# Altium schematic symbol library Schlib1.SchLib: 13 symbols
Pins are listed as number, name and electrical type; pins without a type are passive.

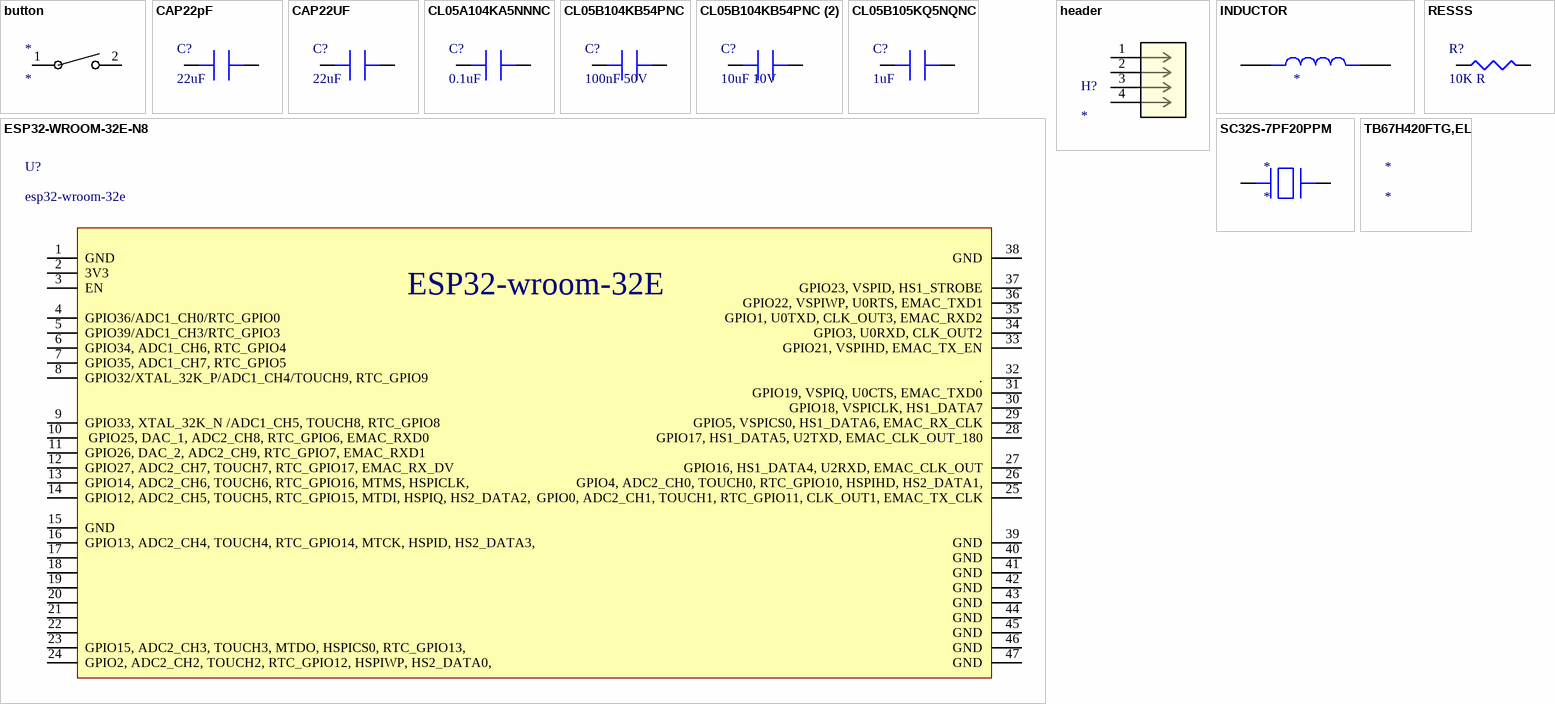
[diagram p0: symbols button to TB67H420FTG,EL]

## button
designator *
footprint SW_MDPSLFS_CNK
pins: 1, 2

## CAP22pF
designator C?, comment 22uF
footprint PCBComponent_1
pins: 1, 2

## CAP22UF
designator C?, comment 22uF
footprint PCBComponent_1
pins: 1, 2

## CL05A104KA5NNNC
designator C?, comment 0.1uF
25V 100nF X5R ±10% 0402 Multilayer Ceramic Capacitors MLCC - SMD/SMT ROHS; Manufacturer: Samsung Electro-Mechanics; Manufacturer Part Number: CL05A104KA5NNNC; Supplier: Avnet; Supplier Part Number: CL05A104KA5NNNC; RoHS: Compliant; Category: Ceramic Capacitors; Stock: 6250000; Pricing: 10000=0.00127, 20000=0.00127, 40000=0.00126, 60000=0.00126, 80000=0.00125 (USD); Value: 100nF; Case/Package: 0402; Case Code (Imperial): 0402; Case Code (Metric): 1005; China RoHS: Compliant; Depth: 500µm; Dielectric: X5R; Dielectric Material: Ceramic; Height: 500µm; Lead Free: Lead Free; Length: 1mm; Lifecycle Status: Production; Material: Ceramic; Max Operating Temperature: 85°C; Min Operating Temperature: -55°C; Mounting Technology: Surface Mount; Number of Terminals: 2; Radiation Hardening: No; REACH SVHC: Yes; Schedule B: 8532240020, 8532240020|8532240020|8532240020|8532240020|8532240020|8532240020|8532240020|8532240020|8532240020|8532240020|8532240020|8532240020|8532240020|8532240020|8532240020|8532240020|8532240020|8532240020|8532240020|8532240020|8532240020|8532240020|8532240020|85; Thickness: 558.8µm; Tolerance: 10%; Voltage: 25V; Voltage Rating: 25V; Voltage Rating (DC): 25V; Width: 500µm; ComponentLink1URL: https://datasheet.octopart.com:443/CL05A104KA5NNNC-Samsung-Electro-Mechanics-datasheet-181960513.pdf?src-supplier=Newark; ComponentLink1Description: https://datasheet.octopart.com:443/CL05A104KA5NNNC-Samsung-Electro-Mechanics-datasheet-181960513.pdf?src-supplier=Newark; ComponentLink2URL: https://datasheet.octopart.com:443/CL05A104KA5NNNC-Samsung-Electro-Mechanics-datasheet-136031715.pdf?src-supplier=Samsung+SCT; ComponentLink2Description: https://datasheet.octopart.com:443/CL05A104KA5NNNC-Samsung-Electro-Mechanics-datasheet-136031715.pdf?src-supplier=Samsung+SCT; ComponentLink3URL: https://datasheet.octopart.com:443/CL05A104KA5NNNC-Samsung-Electro-Mechanics-datasheet-110226196.pdf?src-supplier=Future+Electronics; ComponentLink3Description: https://datasheet.octopart.com:443/CL05A104KA5NNNC-Samsung-Electro-Mechanics-datasheet-110226196.pdf?src-supplier=Future+Electronics; ComponentLink4URL: https://datasheet.octopart.com:443/CL05A104KA5NNNC-Samsung-Electro-Mechanics-datasheet-81461585.pdf?src-supplier=Future+Electronics; ComponentLink4Description: https://datasheet.octopart.com:443/CL05A104KA5NNNC-Samsung-Electro-Mechanics-datasheet-81461585.pdf?src-supplier=Future+Electronics; ComponentLink5URL: https://datasheet.octopart.com:443/CL05A104KA5NNNC-Samsung-datasheet-42485115.pdf?src-supplier=Future+Electronics; ComponentLink5Description: https://datasheet.octopart.com:443/CL05A104KA5NNNC-Samsung-datasheet-42485115.pdf?src-supplier=Future+Electronics; ComponentLink6URL: https://datasheet.octopart.com:443/CL05A104KA5NNNC-Samsung-datasheet-26588998.pdf?src-supplier=Future+Electronics; ComponentLink6Description: https://datasheet.octopart.com:443/CL05A104KA5NNNC-Samsung-datasheet-26588998.pdf?src-supplier=Future+Electronics; ComponentLink7URL: https://datasheet.octopart.com:443/CL05A104KA5NNNC-Samsung-datasheet-12539701.pdf?src-supplier=Future+Electronics; ComponentLink7Description: https://datasheet.octopart.com:443/CL05A104KA5NNNC-Samsung-datasheet-12539701.pdf?src-supplier=Future+Electronics; ComponentLink8URL: https://datasheet.octopart.com:443/CL05A104KA5NNNC-Samsung-Electro-Mechanics-datasheet-149136628.pdf?src-supplier=Future+Electronics; ComponentLink8Description: https://datasheet.octopart.com:443/CL05A104KA5NNNC-Samsung-Electro-Mechanics-datasheet-149136628.pdf?src-supplier=Future+Electronics; ComponentLink9URL: https://datasheet.octopart.com/CL05A104KA5NNNC-Samsung-Electro-Mechanics-datasheet-97040617.pdf; ComponentLink9Description: https://datasheet.octopart.com/CL05A104KA5NNNC-Samsung-Electro-Mechanics-datasheet-97040617.pdf; ComponentLink10URL: https://datasheet.octopart.com/CL05A104KA5NNNC-Samsung-Electro-Mechanics-datasheet-8324245.pdf; ComponentLink10Description: https://datasheet.octopart.com/CL05A104KA5NNNC-Samsung-Electro-Mechanics-datasheet-8324245.pdf; ComponentLink11URL: https://datasheet.octopart.com/General-Multilayer-Ceramic-Capacitors-Samsung-datasheet-family-111.pdf; ComponentLink11Description: https://datasheet.octopart.com/General-Multilayer-Ceramic-Capacitors-Samsung-datasheet-family-111.pdf; ComponentLink12URL: https://datasheet.octopart.com:443/CL05A104KA5NNNC-Samsung-Electro-Mechanics-datasheet-11550168.pdf?src-supplier=Arrow+Electronics; ComponentLink12Description: https://datasheet.octopart.com:443/CL05A104KA5NNNC-Samsung-Electro-Mechanics-datasheet-11550168.pdf?src-supplier=Arrow+Electronics; ComponentLink13URL: https://datasheet.octopart.com:443/CL05A104KA5NNNC-Samsung-datasheet-59220082.pdf?src-supplier=TME; ComponentLink13Description: https://datasheet.octopart.com:443/CL05A104KA5NNNC-Samsung-datasheet-59220082.pdf?src-supplier=TME; ComponentLink14URL: http://sigma.octopart.com:80/rohs_certificate/General-Multilayer-Ceramic-Capacitors-Samsung-family-110.pdf?src-supplier=Compliance+Statements; ComponentLink14Description: http://sigma.octopart.com:80/rohs_certificate/General-Multilayer-Ceramic-Capacitors-Samsung-family-110.pdf?src-supplier=Compliance+Statements; ComponentLink15URL: http://sigma.octopart.com:80/rohs_statement/General-Multilayer-Ceramic-Capacitors-Samsung-family-132.pdf?src-supplier=Compliance+Statements; ComponentLink15Description: http://sigma.octopart.com:80/rohs_statement/General-Multilayer-Ceramic-Capacitors-Samsung-family-132.pdf?src-supplier=Compliance+Statements; ComponentLink16URL: http://sigma.octopart.com:80/reach_statement/General-Multilayer-Ceramic-Capacitors-Samsung-family-133.pdf?src-supplier=Compliance+Statements; ComponentLink16Description: http://sigma.octopart.com:80/reach_statement/General-Multilayer-Ceramic-Capacitors-Samsung-family-133.pdf?src-supplier=Compliance+Statements; LCSC PART NUMBER: *
footprint PCBComponent_1
pins: 1, 2

## CL05B104KB54PNC
designator C?, comment 100nF 50V
50V 100nF X7R ±10% 0402 Multilayer Ceramic Capacitors MLCC - SMD/SMT ROHS; Manufacturer: Samsung Electro-Mechanics; Manufacturer Part Number: CL05B104KB54PNC; ESC PART NUMBER: C307331; Supplier: Avnet; Supplier Part Number: CL05B104KB54PNC; RoHS: Compliant; Category: Ceramic Capacitors; Stock: 50000; Pricing: 10000=0.00505, 20000=0.00502, 40000=0.005, 60000=0.00497, 80000=0.00494 (USD); Value: 100nF; Case/Package: 0402; China RoHS: Compliant; Dielectric Material: Ceramic; Height: 500µm; Length: 1mm; Lifecycle Status: Production; Material: Ceramic; Max Operating Temperature: 125°C; Min Operating Temperature: -55°C; Mounting Technology: Surface Mount; Number of Terminals: 2; REACH SVHC: Yes; Schedule B: 8532240020, 8532240020|8532240020|8532240020|8532240020|8532240020|8532240020|8532240020|8532240020|8532240020|8532240020|8532240020|8532240020|8532240020|8532240020|8532240020|8532240020|8532240020|8532240020|8532240020|8532240020|8532240020|8532240020|8532240020|85; Tolerance: 10%; Voltage Rating: 50V; Voltage Rating (DC): 50V; Width: 500µm; ComponentLink1URL: https://datasheet.octopart.com:443/CL05B104KB54PNC-Samsung-Electro-Mechanics-datasheet-182018727.pdf?src-supplier=IHS; ComponentLink1Description: https://datasheet.octopart.com:443/CL05B104KB54PNC-Samsung-Electro-Mechanics-datasheet-182018727.pdf?src-supplier=IHS; ComponentLink2URL: https://datasheet.octopart.com:443/CL05B104KB54PNC-Samsung-Electro-Mechanics-datasheet-138685816.pdf?src-supplier=Samsung+SCT; ComponentLink2Description: https://datasheet.octopart.com:443/CL05B104KB54PNC-Samsung-Electro-Mechanics-datasheet-138685816.pdf?src-supplier=Samsung+SCT; ComponentLink3URL: https://datasheet.octopart.com:443/CL05B104KB54PNC-Samsung-datasheet-8326407.pdf?src-supplier=TME; ComponentLink3Description: https://datasheet.octopart.com:443/CL05B104KB54PNC-Samsung-datasheet-8326407.pdf?src-supplier=TME
footprint PCBComponent_1
pins: 1, 2

## CL05B104KB54PNC (2)
designator C?, comment 10uF 10V
50V 100nF X7R ±10% 0402 Multilayer Ceramic Capacitors MLCC - SMD/SMT ROHS; Manufacturer: Samsung Electro-Mechanics; Manufacturer Part Number: CL05B104KB54PNC; ESC PART NUMBER: C307415; Supplier: Avnet; Supplier Part Number: CL05B104KB54PNC; RoHS: Compliant; Category: Ceramic Capacitors; Stock: 50000; Pricing: 10000=0.00505, 20000=0.00502, 40000=0.005, 60000=0.00497, 80000=0.00494 (USD); Value: 100nF; Case/Package: 0402; China RoHS: Compliant; Dielectric Material: Ceramic; Height: 500µm; Length: 1mm; Lifecycle Status: Production; Material: Ceramic; Max Operating Temperature: 125°C; Min Operating Temperature: -55°C; Mounting Technology: Surface Mount; Number of Terminals: 2; REACH SVHC: Yes; Schedule B: 8532240020, 8532240020|8532240020|8532240020|8532240020|8532240020|8532240020|8532240020|8532240020|8532240020|8532240020|8532240020|8532240020|8532240020|8532240020|8532240020|8532240020|8532240020|8532240020|8532240020|8532240020|8532240020|8532240020|8532240020|85; Tolerance: 10%; Voltage Rating: 50V; Voltage Rating (DC): 50V; Width: 500µm; ComponentLink1URL: https://datasheet.octopart.com:443/CL05B104KB54PNC-Samsung-Electro-Mechanics-datasheet-182018727.pdf?src-supplier=IHS; ComponentLink1Description: https://datasheet.octopart.com:443/CL05B104KB54PNC-Samsung-Electro-Mechanics-datasheet-182018727.pdf?src-supplier=IHS; ComponentLink2URL: https://datasheet.octopart.com:443/CL05B104KB54PNC-Samsung-Electro-Mechanics-datasheet-138685816.pdf?src-supplier=Samsung+SCT; ComponentLink2Description: https://datasheet.octopart.com:443/CL05B104KB54PNC-Samsung-Electro-Mechanics-datasheet-138685816.pdf?src-supplier=Samsung+SCT; ComponentLink3URL: https://datasheet.octopart.com:443/CL05B104KB54PNC-Samsung-datasheet-8326407.pdf?src-supplier=TME; ComponentLink3Description: https://datasheet.octopart.com:443/CL05B104KB54PNC-Samsung-datasheet-8326407.pdf?src-supplier=TME
footprint PCBComponent_1
pins: 1, 2

## CL05B105KQ5NQNC
designator C?, comment 1uF
Ceramic Capacitor, Multilayer, Ceramic, 6.3V, 10% +Tol, 10% -Tol, X7R, +-15% TC, 1uF, Surface Mount, 0402 inch; Manufacturer: Samsung Electro-Mechanics; Manufacturer Part Number: CL05B105KQ5NQNC; Value: 1µF; Supplier: Avnet; Supplier Part Number: CL05B105KQ5NQNC; RoHS: Compliant; Category: Ceramic Capacitors; Stock: 150000; Pricing: 10000=0.01188, 20000=0.01168, 40000=0.01148, 60000=0.01129, 80000=0.01109 (USD); Case/Package: 0402; Case Code (Imperial): 0402; Case Code (Metric): 1005; China RoHS: Compliant; Contact Plating: Tin; Depth: 500µm; Dielectric: X7R; Dielectric Material: Ceramic; Height: 600µm; Lead Free: Lead Free; Length: 1mm; Lifecycle Status: NRND; Material: Ceramic; Max Operating Temperature: 125°C; Min Operating Temperature: -55°C; Mounting Technology: Surface Mount; Number of Terminals: 2; Packaging: Tape & Reel (TR); REACH SVHC: Yes; Schedule B: 8532240020, 8532240020|8532240020, 8532240020|8532240020|8532240020, 8532240020|8532240020|8532240020|8532240020; Termination: Wraparound; Thickness: 558.8µm; Tolerance: 10%; Voltage Rating: 6.3V; Voltage Rating (DC): 6.3V; Width: 500µm; ComponentLink1URL: https://datasheet.octopart.com:443/CL05B105KQ5NQNC-Samsung-Electro-Mechanics-datasheet-37081328.pdf?src-supplier=Newark; ComponentLink1Description: https://datasheet.octopart.com:443/CL05B105KQ5NQNC-Samsung-Electro-Mechanics-datasheet-37081328.pdf?src-supplier=Newark; ComponentLink2URL: https://datasheet.octopart.com:443/CL05B105KQ5NQNC-Samsung-Electro-Mechanics-datasheet-34153838.pdf?src-supplier=Future+Electronics; ComponentLink2Description: https://datasheet.octopart.com:443/CL05B105KQ5NQNC-Samsung-Electro-Mechanics-datasheet-34153838.pdf?src-supplier=Future+Electronics; ComponentLink3URL: https://datasheet.octopart.com:443/CL05B105KQ5NQNC-Samsung-datasheet-27156743.pdf?src-supplier=Future+Electronics; ComponentLink3Description: https://datasheet.octopart.com:443/CL05B105KQ5NQNC-Samsung-datasheet-27156743.pdf?src-supplier=Future+Electronics; ComponentLink4URL: https://datasheet.octopart.com:443/CL05B105KQ5NQNC-Samsung-datasheet-8326407.pdf?src-supplier=TME; ComponentLink4Description: https://datasheet.octopart.com:443/CL05B105KQ5NQNC-Samsung-datasheet-8326407.pdf?src-supplier=TME; LCSC PART NUMBER: C307427
footprint PCBComponent_1
pins: 1, 2

## ESP32-WROOM-32E-N8
designator U?, comment esp32-wroom-32e
SMD module, ESP32-D0WD-V3, ESP32 ECO V3, 8 MB SPI flash, PCB antenna; Manufacturer: Espressif Systems; Manufacturer Part Number: ESP32-WROOM-32E-N8; Max Supply Voltage: 3.6V; Min Supply Voltage: 3V; Operating Supply Voltage: 3.3V; Supplier: DigiKey; Supplier Part Number: 5407-ESP32-WROOM-32E-N8CT-ND; RoHS: Compliant; Category: System on Chip (SoC); Stock: 5737; Pricing: 1=5.28, 10=4.566, 25=4.3196, 100=3.9802, 250=3.7768 (USD); Height - Seated (Max): 3.25mm; Length: 25.5mm; Max Operating Temperature: 85°C; Min Operating Temperature: -40°C; Number of Terminals: 38; REACH SVHC: Yes; Terminal Pitch: 1.27mm; Width: 18mm; ComponentLink1URL: https://datasheet.octopart.com:443/ESP32-WROOM-32E-N8-Espressif-Systems-datasheet-182247776.pdf?src-supplier=IHS; ComponentLink1Description: https://datasheet.octopart.com:443/ESP32-WROOM-32E-N8-Espressif-Systems-datasheet-182247776.pdf?src-supplier=IHS; ComponentLink2URL: https://datasheet.octopart.com:443/ESP32-WROOM-32E-N8-Espressif-Systems-datasheet-188867343.pdf?src-supplier=TME; ComponentLink2Description: https://datasheet.octopart.com:443/ESP32-WROOM-32E-N8-Espressif-Systems-datasheet-188867343.pdf?src-supplier=TME; ComponentLink3URL: https://datasheet.octopart.com:443/ESP32-WROOM-32E-N8-Espressif-Systems-datasheet-165560559.pdf?src-supplier=TME; ComponentLink3Description: https://datasheet.octopart.com:443/ESP32-WROOM-32E-N8-Espressif-Systems-datasheet-165560559.pdf?src-supplier=TME; ComponentLink4URL: https://datasheet.octopart.com:443/ESP32-WROOM-32E-N8-Espressif-Systems-datasheet-176782711.pdf?src-supplier=SOS+electronic; ComponentLink4Description: https://datasheet.octopart.com:443/ESP32-WROOM-32E-N8-Espressif-Systems-datasheet-176782711.pdf?src-supplier=SOS+electronic; LCSC PART NUMBER: C701342
footprint ESP32­WROOM­32E_EXP
pins: 1 GND, 2 3V3, 3 EN, 4 GPIO36/ADC1_CH0/RTC_GPIO0, 5 GPIO39/ADC1_CH3/RTC_GPIO3, 6 GPIO34, ADC1_CH6, RTC_GPIO4, 7 GPIO35, ADC1_CH7, RTC_GPIO5, 8 GPIO32/XTAL_32K_P/ADC1_CH4/TOUCH9, RTC_GPIO9, 9 GPIO33, XTAL_32K_N /ADC1_CH5, TOUCH8, RTC_GPIO8, 10  GPIO25, DAC_1, ADC2_CH8, RTC_GPIO6, EMAC_RXD0, 11 GPIO26, DAC_2, ADC2_CH9, RTC_GPIO7, EMAC_RXD1, 12 GPIO27, ADC2_CH7, TOUCH7, RTC_GPIO17, EMAC_RX_DV, 13 GPIO14, ADC2_CH6, TOUCH6, RTC_GPIO16, MTMS, HSPICLK,, 14 GPIO12, ADC2_CH5, TOUCH5, RTC_GPIO15, MTDI, HSPIQ, HS2_DATA2,, 15 GND, 16 GPIO13, ADC2_CH4, TOUCH4, RTC_GPIO14, MTCK, HSPID, HS2_DATA3,, 17, 18, 19, 20, 21, 22, 23 GPIO15, ADC2_CH3, TOUCH3, MTDO, HSPICS0, RTC_GPIO13,, 24 GPIO2, ADC2_CH2, TOUCH2, RTC_GPIO12, HSPIWP, HS2_DATA0,, 25 GPIO0, ADC2_CH1, TOUCH1, RTC_GPIO11, CLK_OUT1, EMAC_TX_CLK, 26 GPIO4, ADC2_CH0, TOUCH0, RTC_GPIO10, HSPIHD, HS2_DATA1,, 27 GPIO16, HS1_DATA4, U2RXD, EMAC_CLK_OUT, 28 GPIO17, HS1_DATA5, U2TXD, EMAC_CLK_OUT_180, 29 GPIO5, VSPICS0, HS1_DATA6, EMAC_RX_CLK, 30 GPIO18, VSPICLK, HS1_DATA7, 31 GPIO19, VSPIQ, U0CTS, EMAC_TXD0, 32 ., 33 GPIO21, VSPIHD, EMAC_TX_EN, 34 GPIO3, U0RXD, CLK_OUT2, 35 GPIO1, U0TXD, CLK_OUT3, EMAC_RXD2, 36 GPIO22, VSPIWP, U0RTS, EMAC_TXD1, 37 GPIO23, VSPID, HS1_STROBE, 38 GND, 39 GND, 40 GND, 41 GND, 42 GND, 43 GND, 44 GND, 45 GND, 46 GND, 47 GND
text: ESP32-wroom-32E

## header
designator H?
footprint CONN_OSTTC042162_OST
pins: 1, 2, 3, 4

## INDUCTOR
designator ?
footprint PCBComponent_1
pins: 1, 2

## RESSS
designator R?, comment 10K R
footprint R0805
footprint R0805
pins: 1, 2

## SC32S-7PF20PPM
designator *
Crystal 0.032768MHz ±20ppm (Tol) 7pF FUND 70000Ohm 2-Pin SMD T/R; Manufacturer: Seiko; Manufacturer Part Number: SC32S-7PF20PPM; ESR (Equivalent Series Resistance): 70kΩ; Frequency: 32.768kHz; Frequency Tolerance: 0.002%; Supplier: DigiKey; Supplier Part Number: 728-1074-1-ND; RoHS: Compliant; Category: Crystals; Stock: 110616; Pricing: 1=0.39, 10=0.342, 25=0.3236, 50=0.3104, 100=0.2976, 250=0.2814, 500=0.26974, 1000=0.25858 (USD); Value: 7pF; Case/Package: SMD/SMT; Height: 838.2µm; Length: 3.2004mm; Load Capacitance: 7pF; Max Operating Temperature: 85°C; Min Operating Temperature: -40°C; Mounting Technology: Surface Mount; Packaging: Tape & Reel (TR); Schedule B: 8541600025, 8541600025|8541600025|8541600025|8541600025|8541600025|8541600025|8541600025|8541600025|8541600025|8541600025|8541600025|8541600025|8541600025|8541600025|8541600025|8541600025|8541600025|8541600025|8541600025|8541600025|8541600025|8541600025|8541600025|85; Width: 1.4986mm; LCSC NUM: C5452100
footprint xtal2_CX3225GA_AVX-L
pins: 1, 2

## TB67H420FTG,EL
designator *
Dual H-Bridge Motor Driver, Brushed DC, 4 Outputs, 4.5 A, 4.75 V to 5.25 V, 48 Pins, VQFN-EP; Manufacturer: Toshiba; Manufacturer Part Number: TB67H420FTG,EL; Supplier: DigiKey; Supplier Part Number: TB67H420FTGELCT-ND; Category: Motor Drivers; Stock: 8823; Pricing: 1=5.33, 10=4.073, 25=3.7584, 100=3.4117, 250=3.24644, 500=3.14686, 1000=3.06489 (USD); Schedule B: 8542390000, 8542390000|8542390000|8542390000|8542390000|8542390000; ComponentLink1URL: https://datasheet.octopart.com:443/TB67H420FTG%2CEL-Toshiba-datasheet-159009684.pdf?src-supplier=SHENGYU+ELECTRONICS; ComponentLink1Description: https://datasheet.octopart.com:443/TB67H420FTG%2CEL-Toshiba-datasheet-159009684.pdf?src-supplier=SHENGYU+ELECTRONICS